# Altium schematic symbol library 7499010121A.SchLib: 1 symbol
Pins are listed as number, name and electrical type; pins without a type are passive.

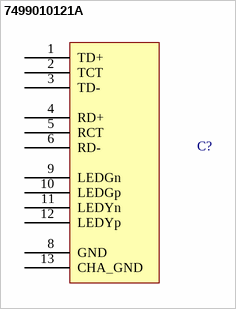
[diagram p0: symbol 7499010121A]

## 7499010121A
designator C?  (value not drawn)
CONN RJ45 MAG RA
pins: 1 TD+, 2 TCT, 3 TD-, 4 RD+, 5 RCT, 6 RD-, 8 GND, 9 LEDGn, 10 LEDGp, 11 LEDYn, 12 LEDYp, 13 CHA_GND